# Altium integrated library Capacitors - Ceramic - 0402.IntLib: 4569 symbols (part 11 of 100)
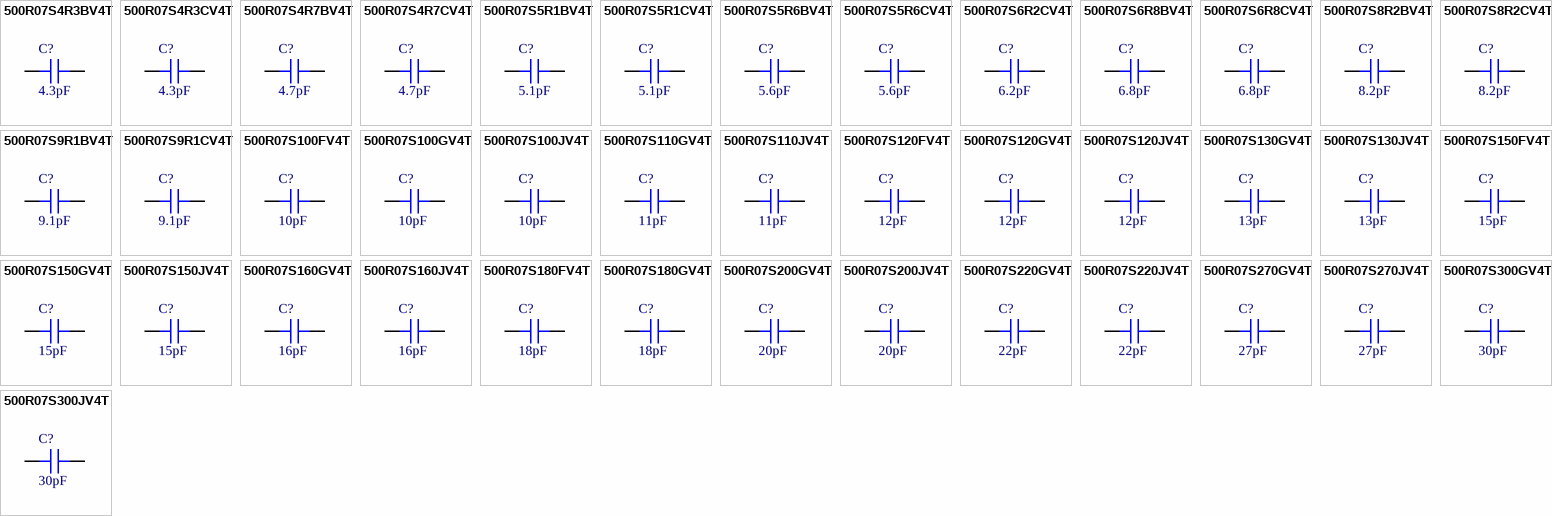
[diagram p124: symbols 500R07S4R3BV4T to 500R07S300JV4T]

## 500R07S110JV4T
designator C?, comment 11pF
CAP CER 11PF 50V C0G/NP0 0402; Part Number: 500R07S110JV4T; Manufacturer: Johanson Technology Inc.; Temperature Coefficient: C0G, NP0; Tolerance: ±5%; Value: 11pF; Applications: RF, Microwave, High Frequency; Capacitance: 11pF; ComponentLink1Description: Datasheet; ComponentLink1URL: https://www.johansontechnology.com/downloads/catalog/johanson-technology-multi-layer-high-q-capacitors.pdf; ComponentLink2Description: DigiKey Link; ComponentLink2URL: http://digikey.com/product-detail/en/johanson-technology-inc/500R07S110JV4T/712-1255-1-ND/1786717; Device Package: 0402 (1005 Metric); Features: High Q, Low Loss, Ultra Low ESR; LastUpdated: 9/2/2020 1:02:20 AM; Lifecycle Status: Active; Minimum Order: 1; Mounting Type: Surface Mount, MLCC; Operating Temperature: -55°C ~ 125°C; Package / Case: 0402 (1005 Metric); Packaging: TapeAndReel; PartId: 3645; Part Status: Active; Price: 0.03; Series: S; Size / Dimension: 0.040" L x 0.020" W (1.02mm x 0.51mm); Supplier 1: DigiKey; Supplier Part Number 1: 712-1255-1-ND; Thickness (Max): 0.024" (0.61mm); Voltage - Rated: 50V
footprint CAP 0402_1005
pins: 1, 2

## 500R07S120FV4T
designator C?, comment 12pF
CAP CER 12PF 50V NP0 0402; Part Number: 500R07S120FV4T; Manufacturer: Johanson Technology Inc.; Temperature Coefficient: C0G, NP0; Tolerance: ±1%; Value: 12pF; Applications: RF, Microwave, High Frequency; Capacitance: 12pF; ComponentLink1Description: Datasheet; ComponentLink1URL: https://www.johansontechnology.com/downloads/catalog/johanson-technology-multi-layer-high-q-capacitors.pdf; ComponentLink2Description: DigiKey Link; ComponentLink2URL: http://digikey.com/product-detail/en/johanson-technology-inc/500R07S120FV4T/712-1606-1-ND/6612942; Device Package: 0402 (1005 Metric); Features: High Q, Low Loss, Ultra Low ESR; LastUpdated: 9/2/2020 1:02:07 AM; Lifecycle Status: Active; Minimum Order: 1; Mounting Type: Surface Mount, MLCC; Operating Temperature: -55°C ~ 125°C; Package / Case: 0402 (1005 Metric); Packaging: TapeAndReel; PartId: 9730; Part Status: Active; Price: 0.14; Series: S; Size / Dimension: 0.040" L x 0.020" W (1.02mm x 0.51mm); Supplier 1: DigiKey; Supplier Part Number 1: 712-1606-1-ND; Thickness (Max): 0.024" (0.61mm); Voltage - Rated: 50V
footprint CAP 0402_1005
pins: 1, 2

## 500R07S120GV4T
designator C?, comment 12pF
CAP CER 12PF 50V C0G/NP0 0402; Part Number: 500R07S120GV4T; Manufacturer: Johanson Technology Inc.; Temperature Coefficient: C0G, NP0; Tolerance: ±2%; Value: 12pF; Applications: RF, Microwave, High Frequency; Capacitance: 12pF; ComponentLink1Description: Datasheet; ComponentLink1URL: https://www.johansontechnology.com/downloads/catalog/johanson-technology-multi-layer-high-q-capacitors.pdf; ComponentLink2Description: DigiKey Link; ComponentLink2URL: http://digikey.com/product-detail/en/johanson-technology-inc/500R07S120GV4T/712-1256-1-ND/1786718; Device Package: 0402 (1005 Metric); Features: High Q, Low Loss, Ultra Low ESR; LastUpdated: 9/2/2020 1:02:23 AM; Lifecycle Status: Active; Minimum Order: 1; Mounting Type: Surface Mount, MLCC; Operating Temperature: -55°C ~ 125°C; Package / Case: 0402 (1005 Metric); Packaging: TapeAndReel; PartId: 2158; Part Status: Active; Price: 0.07; Series: S; Size / Dimension: 0.040" L x 0.020" W (1.02mm x 0.51mm); Supplier 1: DigiKey; Supplier Part Number 1: 712-1256-1-ND; Thickness (Max): 0.024" (0.61mm); Voltage - Rated: 50V
footprint CAP 0402_1005
pins: 1, 2

## 500R07S120JV4T
designator C?, comment 12pF
CAP CER 12PF 50V C0G/NP0 0402; Part Number: 500R07S120JV4T; Manufacturer: Johanson Technology Inc.; Temperature Coefficient: C0G, NP0; Tolerance: ±5%; Value: 12pF; Applications: RF, Microwave, High Frequency; Capacitance: 12pF; ComponentLink1Description: Datasheet; ComponentLink1URL: https://www.johansontechnology.com/downloads/catalog/johanson-technology-multi-layer-high-q-capacitors.pdf; ComponentLink2Description: DigiKey Link; ComponentLink2URL: http://digikey.com/product-detail/en/johanson-technology-inc/500R07S120JV4T/712-1257-1-ND/1786719; Device Package: 0402 (1005 Metric); Features: High Q, Low Loss, Ultra Low ESR; LastUpdated: 9/2/2020 1:02:09 AM; Lifecycle Status: Active; Minimum Order: 1; Mounting Type: Surface Mount, MLCC; Operating Temperature: -55°C ~ 125°C; Package / Case: 0402 (1005 Metric); Packaging: TapeAndReel; PartId: 8739; Part Status: Active; Price: 0.04; Series: S; Size / Dimension: 0.040" L x 0.020" W (1.02mm x 0.51mm); Supplier 1: DigiKey; Supplier Part Number 1: 712-1257-1-ND; Thickness (Max): 0.024" (0.61mm); Voltage - Rated: 50V
footprint CAP 0402_1005
pins: 1, 2

## 500R07S130GV4T
designator C?, comment 13pF
CAP CER 13PF 50V C0G/NP0 0402; Part Number: 500R07S130GV4T; Manufacturer: Johanson Technology Inc.; Temperature Coefficient: C0G, NP0; Tolerance: ±2%; Value: 13pF; Applications: RF, Microwave, High Frequency; Capacitance: 13pF; ComponentLink1Description: Datasheet; ComponentLink1URL: https://www.johansontechnology.com/downloads/catalog/johanson-technology-multi-layer-high-q-capacitors.pdf; ComponentLink2Description: DigiKey Link; ComponentLink2URL: http://digikey.com/product-detail/en/johanson-technology-inc/500R07S130GV4T/712-1258-1-ND/1786720; Device Package: 0402 (1005 Metric); Features: High Q, Low Loss, Ultra Low ESR; LastUpdated: 9/2/2020 1:01:49 AM; Lifecycle Status: Active; Minimum Order: 1; Mounting Type: Surface Mount, MLCC; Operating Temperature: -55°C ~ 125°C; Package / Case: 0402 (1005 Metric); Packaging: TapeAndReel; PartId: 12243; Part Status: Active; Price: 0.07; Series: S; Size / Dimension: 0.040" L x 0.020" W (1.02mm x 0.51mm); Supplier 1: DigiKey; Supplier Part Number 1: 712-1258-1-ND; Thickness (Max): 0.024" (0.61mm); Voltage - Rated: 50V
footprint CAP 0402_1005
pins: 1, 2

## 500R07S130JV4T
designator C?, comment 13pF
CAP CER 13PF 50V C0G/NP0 0402; Part Number: 500R07S130JV4T; Manufacturer: Johanson Technology Inc.; Temperature Coefficient: C0G, NP0; Tolerance: ±5%; Value: 13pF; Applications: RF, Microwave, High Frequency; Capacitance: 13pF; ComponentLink1Description: Datasheet; ComponentLink1URL: https://www.johansontechnology.com/downloads/catalog/johanson-technology-multi-layer-high-q-capacitors.pdf; ComponentLink2Description: DigiKey Link; ComponentLink2URL: http://digikey.com/product-detail/en/johanson-technology-inc/500R07S130JV4T/712-1259-1-ND/1786721; Device Package: 0402 (1005 Metric); Features: High Q, Low Loss, Ultra Low ESR; LastUpdated: 9/2/2020 1:02:08 AM; Lifecycle Status: Active; Minimum Order: 1; Mounting Type: Surface Mount, MLCC; Operating Temperature: -55°C ~ 125°C; Package / Case: 0402 (1005 Metric); Packaging: TapeAndReel; PartId: 9273; Part Status: Active; Price: 0.04; Series: S; Size / Dimension: 0.040" L x 0.020" W (1.02mm x 0.51mm); Supplier 1: DigiKey; Supplier Part Number 1: 712-1259-1-ND; Thickness (Max): 0.024" (0.61mm); Voltage - Rated: 50V
footprint CAP 0402_1005
pins: 1, 2

## 500R07S150FV4T
designator C?, comment 15pF
CAP CER 15PF 50V C0G/NP0 0402; Part Number: 500R07S150FV4T; Manufacturer: Johanson Technology Inc.; Temperature Coefficient: C0G, NP0; Tolerance: ±1%; Value: 15pF; Applications: RF, Microwave, High Frequency; Capacitance: 15pF; ComponentLink1Description: Datasheet; ComponentLink1URL: https://www.johansontechnology.com/downloads/catalog/johanson-technology-multi-layer-high-q-capacitors.pdf; ComponentLink2Description: DigiKey Link; ComponentLink2URL: http://digikey.com/product-detail/en/johanson-technology-inc/500R07S150FV4T/712-1583-1-ND/5253623; Device Package: 0402 (1005 Metric); Features: High Q, Low Loss, Ultra Low ESR; LastUpdated: 9/2/2020 1:02:07 AM; Lifecycle Status: Active; Minimum Order: 1; Mounting Type: Surface Mount, MLCC; Operating Temperature: -55°C ~ 125°C; Package / Case: 0402 (1005 Metric); Packaging: TapeAndReel; PartId: 9710; Part Status: Active; Price: 0.12; Series: S; Size / Dimension: 0.040" L x 0.020" W (1.02mm x 0.51mm); Supplier 1: DigiKey; Supplier Part Number 1: 712-1583-1-ND; Thickness (Max): 0.024" (0.61mm); Voltage - Rated: 50V
footprint CAP 0402_1005
pins: 1, 2

## 500R07S150GV4T
designator C?, comment 15pF
CAP CER 15PF 50V C0G/NP0 0402; Part Number: 500R07S150GV4T; Manufacturer: Johanson Technology Inc.; Temperature Coefficient: C0G, NP0; Tolerance: ±2%; Value: 15pF; Applications: RF, Microwave, High Frequency; Capacitance: 15pF; ComponentLink1Description: Datasheet; ComponentLink1URL: https://www.johansontechnology.com/downloads/catalog/johanson-technology-multi-layer-high-q-capacitors.pdf; ComponentLink2Description: DigiKey Link; ComponentLink2URL: http://digikey.com/product-detail/en/johanson-technology-inc/500R07S150GV4T/712-1260-1-ND/1786722; Device Package: 0402 (1005 Metric); Features: High Q, Low Loss, Ultra Low ESR; LastUpdated: 9/2/2020 1:02:23 AM; Lifecycle Status: Active; Minimum Order: 1; Mounting Type: Surface Mount, MLCC; Operating Temperature: -55°C ~ 125°C; Package / Case: 0402 (1005 Metric); Packaging: TapeAndReel; PartId: 2161; Part Status: Active; Price: 0.07; Series: S; Size / Dimension: 0.040" L x 0.020" W (1.02mm x 0.51mm); Supplier 1: DigiKey; Supplier Part Number 1: 712-1260-1-ND; Thickness (Max): 0.024" (0.61mm); Voltage - Rated: 50V
footprint CAP 0402_1005
pins: 1, 2

## 500R07S150JV4T
designator C?, comment 15pF
CAP CER 15PF 50V C0G/NP0 0402; Part Number: 500R07S150JV4T; Manufacturer: Johanson Technology Inc.; Temperature Coefficient: C0G, NP0; Tolerance: ±5%; Value: 15pF; Applications: RF, Microwave, High Frequency; Capacitance: 15pF; ComponentLink1Description: Datasheet; ComponentLink1URL: https://www.johansontechnology.com/downloads/catalog/johanson-technology-multi-layer-high-q-capacitors.pdf; ComponentLink2Description: DigiKey Link; ComponentLink2URL: http://digikey.com/product-detail/en/johanson-technology-inc/500R07S150JV4T/712-1261-1-ND/1786723; Device Package: 0402 (1005 Metric); Features: High Q, Low Loss, Ultra Low ESR; LastUpdated: 9/2/2020 1:02:17 AM; Lifecycle Status: Active; Minimum Order: 1; Mounting Type: Surface Mount, MLCC; Operating Temperature: -55°C ~ 125°C; Package / Case: 0402 (1005 Metric); Packaging: TapeAndReel; PartId: 5069; Part Status: Active; Price: 0.04; Series: S; Size / Dimension: 0.040" L x 0.020" W (1.02mm x 0.51mm); Supplier 1: DigiKey; Supplier Part Number 1: 712-1261-1-ND; Thickness (Max): 0.024" (0.61mm); Voltage - Rated: 50V
footprint CAP 0402_1005
pins: 1, 2

## 500R07S160GV4T
designator C?, comment 16pF
CAP CER 16PF 50V C0G/NP0 0402; Part Number: 500R07S160GV4T; Manufacturer: Johanson Technology Inc.; Temperature Coefficient: C0G, NP0; Tolerance: ±2%; Value: 16pF; Applications: RF, Microwave, High Frequency; Capacitance: 16pF; ComponentLink1Description: Datasheet; ComponentLink1URL: https://www.johansontechnology.com/downloads/catalog/johanson-technology-multi-layer-high-q-capacitors.pdf; ComponentLink2Description: DigiKey Link; ComponentLink2URL: http://digikey.com/product-detail/en/johanson-technology-inc/500R07S160GV4T/712-1262-1-ND/1786724; Device Package: 0402 (1005 Metric); Features: High Q, Low Loss, Ultra Low ESR; LastUpdated: 9/2/2020 1:01:48 AM; Lifecycle Status: Active; Minimum Order: 1; Mounting Type: Surface Mount, MLCC; Operating Temperature: -55°C ~ 125°C; Package / Case: 0402 (1005 Metric); Packaging: TapeAndReel; PartId: 12270; Part Status: Active; Price: 0.07; Series: S; Size / Dimension: 0.040" L x 0.020" W (1.02mm x 0.51mm); Supplier 1: DigiKey; Supplier Part Number 1: 712-1262-1-ND; Thickness (Max): 0.024" (0.61mm); Voltage - Rated: 50V
footprint CAP 0402_1005
pins: 1, 2

## 500R07S160JV4T
designator C?, comment 16pF
CAP CER 16PF 50V C0G/NP0 0402; Part Number: 500R07S160JV4T; Manufacturer: Johanson Technology Inc.; Temperature Coefficient: C0G, NP0; Tolerance: ±5%; Value: 16pF; Applications: RF, Microwave, High Frequency; Capacitance: 16pF; ComponentLink1Description: Datasheet; ComponentLink1URL: https://www.johansontechnology.com/downloads/catalog/johanson-technology-multi-layer-high-q-capacitors.pdf; ComponentLink2Description: DigiKey Link; ComponentLink2URL: http://digikey.com/product-detail/en/johanson-technology-inc/500R07S160JV4T/712-1263-1-ND/1786725; Device Package: 0402 (1005 Metric); Features: High Q, Low Loss, Ultra Low ESR; LastUpdated: 9/2/2020 1:02:20 AM; Lifecycle Status: Active; Minimum Order: 1; Mounting Type: Surface Mount, MLCC; Operating Temperature: -55°C ~ 125°C; Package / Case: 0402 (1005 Metric); Packaging: TapeAndReel; PartId: 3652; Part Status: Active; Price: 0.03; Series: S; Size / Dimension: 0.040" L x 0.020" W (1.02mm x 0.51mm); Supplier 1: DigiKey; Supplier Part Number 1: 712-1263-1-ND; Thickness (Max): 0.024" (0.61mm); Voltage - Rated: 50V
footprint CAP 0402_1005
pins: 1, 2

## 500R07S180FV4T
designator C?, comment 18pF
CAP CER 18PF 50V NP0 0402; Part Number: 500R07S180FV4T; Manufacturer: Johanson Technology Inc.; Temperature Coefficient: C0G, NP0; Tolerance: ±1%; Value: 18pF; Applications: RF, Microwave, High Frequency; Capacitance: 18pF; ComponentLink1Description: Datasheet; ComponentLink1URL: https://www.johansontechnology.com/downloads/catalog/johanson-technology-multi-layer-high-q-capacitors.pdf; ComponentLink2Description: DigiKey Link; ComponentLink2URL: http://digikey.com/product-detail/en/johanson-technology-inc/500R07S180FV4T/712-1607-1-ND/6612943; Device Package: 0402 (1005 Metric); Features: High Q, Low Loss, Ultra Low ESR; LastUpdated: 9/2/2020 1:02:13 AM; Lifecycle Status: Active; Minimum Order: 1; Mounting Type: Surface Mount, MLCC; Operating Temperature: -55°C ~ 125°C; Package / Case: 0402 (1005 Metric); Packaging: TapeAndReel; PartId: 6659; Part Status: Active; Price: 0.12; Series: S; Size / Dimension: 0.040" L x 0.020" W (1.02mm x 0.51mm); Supplier 1: DigiKey; Supplier Part Number 1: 712-1607-1-ND; Thickness (Max): 0.024" (0.61mm); Voltage - Rated: 50V
footprint CAP 0402_1005
pins: 1, 2

## 500R07S180GV4T
designator C?, comment 18pF
CAP CER 18PF 50V C0G/NP0 0402; Part Number: 500R07S180GV4T; Manufacturer: Johanson Technology Inc.; Temperature Coefficient: C0G, NP0; Tolerance: ±2%; Value: 18pF; Applications: RF, Microwave, High Frequency; Capacitance: 18pF; ComponentLink1Description: Datasheet; ComponentLink1URL: https://www.johansontechnology.com/downloads/catalog/johanson-technology-multi-layer-high-q-capacitors.pdf; ComponentLink2Description: DigiKey Link; ComponentLink2URL: http://digikey.com/product-detail/en/johanson-technology-inc/500R07S180GV4T/712-1264-1-ND/1786726; Device Package: 0402 (1005 Metric); Features: High Q, Low Loss, Ultra Low ESR; LastUpdated: 9/2/2020 1:01:48 AM; Lifecycle Status: Active; Minimum Order: 1; Mounting Type: Surface Mount, MLCC; Operating Temperature: -55°C ~ 125°C; Package / Case: 0402 (1005 Metric); Packaging: TapeAndReel; PartId: 12291; Part Status: Active; Price: 0.07; Series: S; Size / Dimension: 0.040" L x 0.020" W (1.02mm x 0.51mm); Supplier 1: DigiKey; Supplier Part Number 1: 712-1264-1-ND; Thickness (Max): 0.024" (0.61mm); Voltage - Rated: 50V
footprint CAP 0402_1005
pins: 1, 2

## 500R07S200GV4T
designator C?, comment 20pF
CAP CER 20PF 50V C0G/NP0 0402; Part Number: 500R07S200GV4T; Manufacturer: Johanson Technology Inc.; Temperature Coefficient: C0G, NP0; Tolerance: ±2%; Value: 20pF; Applications: RF, Microwave, High Frequency; Capacitance: 20pF; ComponentLink1Description: Datasheet; ComponentLink1URL: https://www.johansontechnology.com/downloads/catalog/johanson-technology-multi-layer-high-q-capacitors.pdf; ComponentLink2Description: DigiKey Link; ComponentLink2URL: http://digikey.com/product-detail/en/johanson-technology-inc/500R07S200GV4T/712-1272-1-ND/1786734; Device Package: 0402 (1005 Metric); Features: High Q, Low Loss, Ultra Low ESR; LastUpdated: 9/2/2020 1:01:18 AM; Lifecycle Status: Active; Minimum Order: 1; Mounting Type: Surface Mount, MLCC; Operating Temperature: -55°C ~ 125°C; Package / Case: 0402 (1005 Metric); Packaging: TapeAndReel; PartId: 13287; Part Status: Active; Price: 0.07; Series: S; Size / Dimension: 0.040" L x 0.020" W (1.02mm x 0.51mm); Supplier 1: DigiKey; Supplier Part Number 1: 712-1272-1-ND; Thickness (Max): 0.024" (0.61mm); Voltage - Rated: 50V
footprint CAP 0402_1005
pins: 1, 2

## 500R07S200JV4T
designator C?, comment 20pF
CAP CER 20PF 50V C0G/NP0 0402; Part Number: 500R07S200JV4T; Manufacturer: Johanson Technology Inc.; Temperature Coefficient: C0G, NP0; Tolerance: ±5%; Value: 20pF; Applications: RF, Microwave, High Frequency; Capacitance: 20pF; ComponentLink1Description: Datasheet; ComponentLink1URL: https://www.johansontechnology.com/downloads/catalog/johanson-technology-multi-layer-high-q-capacitors.pdf; ComponentLink2Description: DigiKey Link; ComponentLink2URL: http://digikey.com/product-detail/en/johanson-technology-inc/500R07S200JV4T/712-1273-1-ND/1786735; Device Package: 0402 (1005 Metric); Features: High Q, Low Loss, Ultra Low ESR; LastUpdated: 9/2/2020 1:02:17 AM; Lifecycle Status: Active; Minimum Order: 1; Mounting Type: Surface Mount, MLCC; Operating Temperature: -55°C ~ 125°C; Package / Case: 0402 (1005 Metric); Packaging: TapeAndReel; PartId: 5043; Part Status: Active; Price: 0.03; Series: S; Size / Dimension: 0.040" L x 0.020" W (1.02mm x 0.51mm); Supplier 1: DigiKey; Supplier Part Number 1: 712-1273-1-ND; Thickness (Max): 0.024" (0.61mm); Voltage - Rated: 50V
footprint CAP 0402_1005
pins: 1, 2

## 500R07S220GV4T
designator C?, comment 22pF
CAP CER 22PF 50V C0G/NP0 0402; Part Number: 500R07S220GV4T; Manufacturer: Johanson Technology Inc.; Temperature Coefficient: C0G, NP0; Tolerance: ±2%; Value: 22pF; Applications: RF, Microwave, High Frequency; Capacitance: 22pF; ComponentLink1Description: Datasheet; ComponentLink1URL: https://www.johansontechnology.com/downloads/catalog/johanson-technology-multi-layer-high-q-capacitors.pdf; ComponentLink2Description: DigiKey Link; ComponentLink2URL: http://digikey.com/product-detail/en/johanson-technology-inc/500R07S220GV4T/712-1274-1-ND/1786736; Device Package: 0402 (1005 Metric); Features: High Q, Low Loss, Ultra Low ESR; LastUpdated: 9/2/2020 1:02:23 AM; Lifecycle Status: Active; Minimum Order: 1; Mounting Type: Surface Mount, MLCC; Operating Temperature: -55°C ~ 125°C; Package / Case: 0402 (1005 Metric); Packaging: TapeAndReel; PartId: 2165; Part Status: Active; Price: 0.07; Series: S; Size / Dimension: 0.040" L x 0.020" W (1.02mm x 0.51mm); Supplier 1: DigiKey; Supplier Part Number 1: 712-1274-1-ND; Thickness (Max): 0.024" (0.61mm); Voltage - Rated: 50V
footprint CAP 0402_1005
pins: 1, 2

## 500R07S220JV4T
designator C?, comment 22pF
CAP CER 22PF 50V C0G/NP0 0402; Part Number: 500R07S220JV4T; Manufacturer: Johanson Technology Inc.; Temperature Coefficient: C0G, NP0; Tolerance: ±5%; Value: 22pF; Applications: RF, Microwave, High Frequency; Capacitance: 22pF; ComponentLink1Description: Datasheet; ComponentLink1URL: https://www.johansontechnology.com/downloads/catalog/johanson-technology-multi-layer-high-q-capacitors.pdf; ComponentLink2Description: DigiKey Link; ComponentLink2URL: http://digikey.com/product-detail/en/johanson-technology-inc/500R07S220JV4T/712-1275-1-ND/1786737; Device Package: 0402 (1005 Metric); Features: High Q, Low Loss, Ultra Low ESR; LastUpdated: 9/2/2020 1:02:09 AM; Lifecycle Status: Active; Minimum Order: 1; Mounting Type: Surface Mount, MLCC; Operating Temperature: -55°C ~ 125°C; Package / Case: 0402 (1005 Metric); Packaging: TapeAndReel; PartId: 8737; Part Status: Active; Price: 0.04; Series: S; Size / Dimension: 0.040" L x 0.020" W (1.02mm x 0.51mm); Supplier 1: DigiKey; Supplier Part Number 1: 712-1275-1-ND; Thickness (Max): 0.024" (0.61mm); Voltage - Rated: 50V
footprint CAP 0402_1005
pins: 1, 2

## 500R07S270GV4T
designator C?, comment 27pF
CAP CER 27PF 50V C0G/NP0 0402; Part Number: 500R07S270GV4T; Manufacturer: Johanson Technology Inc.; Temperature Coefficient: C0G, NP0; Tolerance: ±2%; Value: 27pF; Applications: RF, Microwave, High Frequency; Capacitance: 27pF; ComponentLink1Description: Datasheet; ComponentLink1URL: https://www.johansontechnology.com/downloads/catalog/johanson-technology-multi-layer-high-q-capacitors.pdf; ComponentLink2Description: DigiKey Link; ComponentLink2URL: http://digikey.com/product-detail/en/johanson-technology-inc/500R07S270GV4T/712-1276-1-ND/1786738; Device Package: 0402 (1005 Metric); Features: High Q, Low Loss, Ultra Low ESR; LastUpdated: 9/2/2020 1:02:23 AM; Lifecycle Status: Active; Minimum Order: 1; Mounting Type: Surface Mount, MLCC; Operating Temperature: -55°C ~ 125°C; Package / Case: 0402 (1005 Metric); Packaging: TapeAndReel; PartId: 2172; Part Status: Active; Price: 0.07; Series: S; Size / Dimension: 0.040" L x 0.020" W (1.02mm x 0.51mm); Supplier 1: DigiKey; Supplier Part Number 1: 712-1276-1-ND; Thickness (Max): 0.024" (0.61mm); Voltage - Rated: 50V
footprint CAP 0402_1005
pins: 1, 2

## 500R07S270JV4T
designator C?, comment 27pF
CAP CER 27PF 50V C0G/NP0 0402; Part Number: 500R07S270JV4T; Manufacturer: Johanson Technology Inc.; Temperature Coefficient: C0G, NP0; Tolerance: ±5%; Value: 27pF; Applications: RF, Microwave, High Frequency; Capacitance: 27pF; ComponentLink1Description: Datasheet; ComponentLink1URL: https://www.johansontechnology.com/downloads/catalog/johanson-technology-multi-layer-high-q-capacitors.pdf; ComponentLink2Description: DigiKey Link; ComponentLink2URL: http://digikey.com/product-detail/en/johanson-technology-inc/500R07S270JV4T/712-1277-1-ND/1786739; Device Package: 0402 (1005 Metric); Features: High Q, Low Loss, Ultra Low ESR; LastUpdated: 9/2/2020 1:02:17 AM; Lifecycle Status: Active; Minimum Order: 1; Mounting Type: Surface Mount, MLCC; Operating Temperature: -55°C ~ 125°C; Package / Case: 0402 (1005 Metric); Packaging: TapeAndReel; PartId: 5077; Part Status: Active; Price: 0.04; Series: S; Size / Dimension: 0.040" L x 0.020" W (1.02mm x 0.51mm); Supplier 1: DigiKey; Supplier Part Number 1: 712-1277-1-ND; Thickness (Max): 0.024" (0.61mm); Voltage - Rated: 50V
footprint CAP 0402_1005
pins: 1, 2

## 500R07S300GV4T
designator C?, comment 30pF
CAP CER 30PF 50V C0G/NP0 0402; Part Number: 500R07S300GV4T; Manufacturer: Johanson Technology Inc.; Temperature Coefficient: C0G, NP0; Tolerance: ±2%; Value: 30pF; Applications: RF, Microwave, High Frequency; Capacitance: 30pF; ComponentLink1Description: Datasheet; ComponentLink1URL: https://www.johansontechnology.com/downloads/catalog/johanson-technology-multi-layer-high-q-capacitors.pdf; ComponentLink2Description: DigiKey Link; ComponentLink2URL: http://digikey.com/product-detail/en/johanson-technology-inc/500R07S300GV4T/712-1295-1-ND/1786757; Device Package: 0402 (1005 Metric); Features: High Q, Low Loss, Ultra Low ESR; LastUpdated: 9/2/2020 1:02:18 AM; Lifecycle Status: Active; Minimum Order: 1; Mounting Type: Surface Mount, MLCC; Operating Temperature: -55°C ~ 125°C; Package / Case: 0402 (1005 Metric); Packaging: TapeAndReel; PartId: 4500; Part Status: Active; Price: 0.06; Series: S; Size / Dimension: 0.040" L x 0.020" W (1.02mm x 0.51mm); Supplier 1: DigiKey; Supplier Part Number 1: 712-1295-1-ND; Thickness (Max): 0.024" (0.61mm); Voltage - Rated: 50V
footprint CAP 0402_1005
pins: 1, 2

## 500R07S300JV4T
designator C?, comment 30pF
CAP CER 30PF 50V C0G/NP0 0402; Part Number: 500R07S300JV4T; Manufacturer: Johanson Technology Inc.; Temperature Coefficient: C0G, NP0; Tolerance: ±5%; Value: 30pF; Applications: RF, Microwave, High Frequency; Capacitance: 30pF; ComponentLink1Description: Datasheet; ComponentLink1URL: https://www.johansontechnology.com/downloads/catalog/johanson-technology-multi-layer-high-q-capacitors.pdf; ComponentLink2Description: DigiKey Link; ComponentLink2URL: http://digikey.com/product-detail/en/johanson-technology-inc/500R07S300JV4T/712-1296-1-ND/1786758; Device Package: 0402 (1005 Metric); Features: High Q, Low Loss, Ultra Low ESR; LastUpdated: 9/2/2020 1:02:17 AM; Lifecycle Status: Active; Minimum Order: 1; Mounting Type: Surface Mount, MLCC; Operating Temperature: -55°C ~ 125°C; Package / Case: 0402 (1005 Metric); Packaging: TapeAndReel; PartId: 5085; Part Status: Active; Price: 0.04; Series: S; Size / Dimension: 0.040" L x 0.020" W (1.02mm x 0.51mm); Supplier 1: DigiKey; Supplier Part Number 1: 712-1296-1-ND; Thickness (Max): 0.024" (0.61mm); Voltage - Rated: 50V
footprint CAP 0402_1005
pins: 1, 2

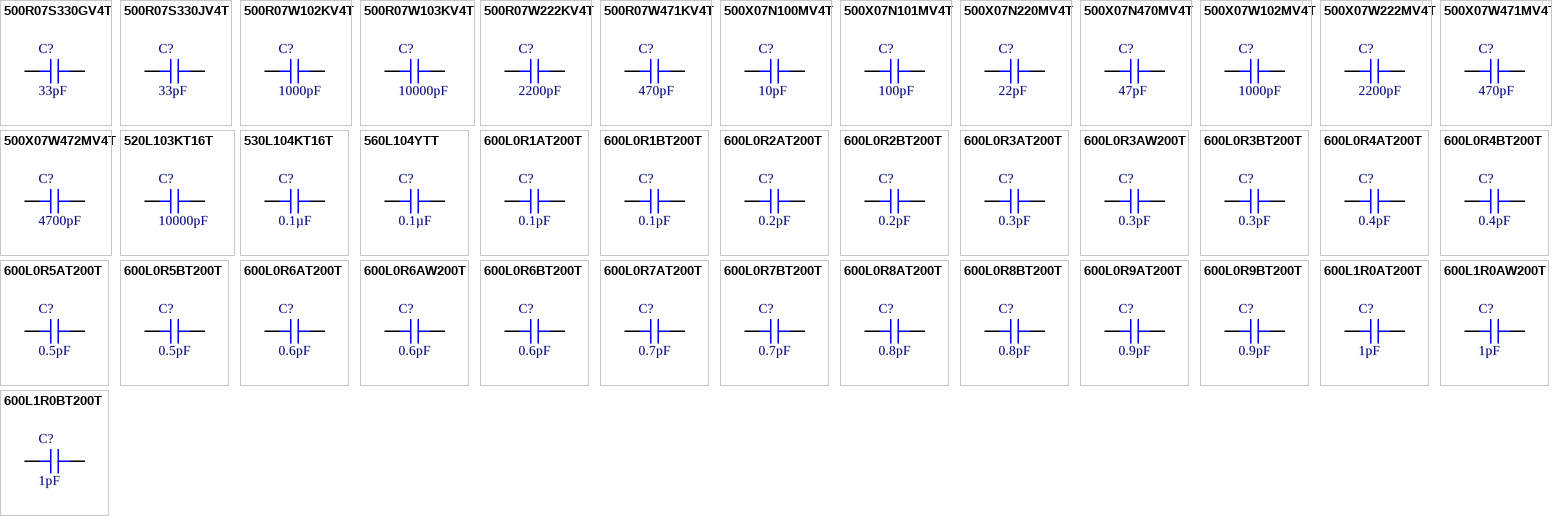
[diagram p12: symbols 500R07S330GV4T to 600L1R0BT200T]

## 500R07S330GV4T
designator C?, comment 33pF
CAP CER 33PF 50V C0G/NP0 0402; Part Number: 500R07S330GV4T; Manufacturer: Johanson Technology Inc.; Temperature Coefficient: C0G, NP0; Tolerance: ±2%; Value: 33pF; Applications: RF, Microwave, High Frequency; Capacitance: 33pF; ComponentLink1Description: Datasheet; ComponentLink1URL: https://www.johansontechnology.com/downloads/catalog/johanson-technology-multi-layer-high-q-capacitors.pdf; ComponentLink2Description: DigiKey Link; ComponentLink2URL: http://digikey.com/product-detail/en/johanson-technology-inc/500R07S330GV4T/712-1297-1-ND/1786759; Device Package: 0402 (1005 Metric); Features: High Q, Low Loss, Ultra Low ESR; LastUpdated: 9/2/2020 1:02:14 AM; Lifecycle Status: Active; Minimum Order: 1; Mounting Type: Surface Mount, MLCC; Operating Temperature: -55°C ~ 125°C; Package / Case: 0402 (1005 Metric); Packaging: TapeAndReel; PartId: 6334; Part Status: Active; Price: 0.07; Series: S; Size / Dimension: 0.040" L x 0.020" W (1.02mm x 0.51mm); Supplier 1: DigiKey; Supplier Part Number 1: 712-1297-1-ND; Thickness (Max): 0.024" (0.61mm); Voltage - Rated: 50V
footprint CAP 0402_1005
pins: 1, 2

## 500R07S330JV4T
designator C?, comment 33pF
CAP CER 33PF 50V C0G/NP0 0402; Part Number: 500R07S330JV4T; Manufacturer: Johanson Technology Inc.; Temperature Coefficient: C0G, NP0; Tolerance: ±5%; Value: 33pF; Applications: RF, Microwave, High Frequency; Capacitance: 33pF; ComponentLink1Description: Datasheet; ComponentLink1URL: https://www.johansontechnology.com/downloads/catalog/johanson-technology-multi-layer-high-q-capacitors.pdf; ComponentLink2Description: DigiKey Link; ComponentLink2URL: http://digikey.com/product-detail/en/johanson-technology-inc/500R07S330JV4T/712-1298-1-ND/1786760; Device Package: 0402 (1005 Metric); Features: High Q, Low Loss, Ultra Low ESR; LastUpdated: 9/2/2020 1:02:08 AM; Lifecycle Status: Active; Minimum Order: 1; Mounting Type: Surface Mount, MLCC; Operating Temperature: -55°C ~ 125°C; Package / Case: 0402 (1005 Metric); Packaging: TapeAndReel; PartId: 9262; Part Status: Active; Price: 0.04; Series: S; Size / Dimension: 0.040" L x 0.020" W (1.02mm x 0.51mm); Supplier 1: DigiKey; Supplier Part Number 1: 712-1298-1-ND; Thickness (Max): 0.024" (0.61mm); Voltage - Rated: 50V
footprint CAP 0402_1005
pins: 1, 2

## 500R07W102KV4T
designator C?, comment 1000pF
CAP CER 1000PF 50V X7R 0402; Part Number: 500R07W102KV4T; Manufacturer: Johanson Dielectrics Inc.; Tolerance: ±10%; Value: 1000pF; Applications: General Purpose; Capacitance: 1000pF; ComponentLink1Description: Datasheet; ComponentLink1URL: https://www.johansondielectrics.com/downloads/catalog/johanson-dielectrics-product-catalog.pdf; ComponentLink2Description: DigiKey Link; ComponentLink2URL: http://digikey.com/product-detail/en/johanson-dielectrics-inc/500R07W102KV4T/709-1133-1-ND/1859465; Device Package: 0402 (1005 Metric); LastUpdated: 9/2/2020 1:02:17 AM; Lifecycle Status: Active; Minimum Order: 1; Mounting Type: Surface Mount, MLCC; Operating Temperature: -55°C ~ 125°C; Package / Case: 0402 (1005 Metric); Packaging: TapeAndReel; PartId: 4886; Part Status: Active; Price: 0.04; Series: -; Size / Dimension: 0.040" L x 0.020" W (1.02mm x 0.51mm); Supplier 1: DigiKey; Supplier Part Number 1: 709-1133-1-ND; Temperature Coefficient: X7R; Thickness (Max): 0.025" (0.64mm); Voltage - Rated: 50V
footprint CAP 0402_1005
pins: 1, 2

## 500R07W103KV4T
designator C?, comment 10000pF
CAP CER 10000PF 50V X7R 0402; Part Number: 500R07W103KV4T; Manufacturer: Johanson Dielectrics Inc.; Tolerance: ±10%; Value: 10000pF; Applications: General Purpose; Capacitance: 10000pF; ComponentLink1Description: Datasheet; ComponentLink1URL: https://www.johansondielectrics.com/downloads/catalog/johanson-dielectrics-product-catalog.pdf; ComponentLink2Description: DigiKey Link; ComponentLink2URL: http://digikey.com/product-detail/en/johanson-dielectrics-inc/500R07W103KV4T/709-1134-1-ND/1859466; Device Package: 0402 (1005 Metric); LastUpdated: 9/2/2020 1:02:09 AM; Lifecycle Status: Active; Minimum Order: 1; Mounting Type: Surface Mount, MLCC; Operating Temperature: -55°C ~ 125°C; Package / Case: 0402 (1005 Metric); Packaging: TapeAndReel; PartId: 8759; Part Status: Active; Price: 0.04; Series: -; Size / Dimension: 0.040" L x 0.020" W (1.02mm x 0.51mm); Supplier 1: DigiKey; Supplier Part Number 1: 709-1134-1-ND; Temperature Coefficient: X7R; Thickness (Max): 0.025" (0.64mm); Voltage - Rated: 50V
footprint CAP 0402_1005
pins: 1, 2

## 500R07W222KV4T
designator C?, comment 2200pF
CAP CER 2200PF 50V X7R 0402; Part Number: 500R07W222KV4T; Manufacturer: Johanson Dielectrics Inc.; Tolerance: ±10%; Value: 2200pF; Applications: General Purpose; Capacitance: 2200pF; ComponentLink1Description: Datasheet; ComponentLink1URL: https://www.johansondielectrics.com/downloads/catalog/johanson-dielectrics-product-catalog.pdf; ComponentLink2Description: DigiKey Link; ComponentLink2URL: http://digikey.com/product-detail/en/johanson-dielectrics-inc/500R07W222KV4T/709-1135-1-ND/1859467; Device Package: 0402 (1005 Metric); LastUpdated: 9/2/2020 1:02:09 AM; Lifecycle Status: Active; Minimum Order: 1; Mounting Type: Surface Mount, MLCC; Operating Temperature: -55°C ~ 125°C; Package / Case: 0402 (1005 Metric); Packaging: TapeAndReel; PartId: 8868; Part Status: Active; Price: 0.01; Series: -; Size / Dimension: 0.040" L x 0.020" W (1.02mm x 0.51mm); Supplier 1: DigiKey; Supplier Part Number 1: 709-1135-1-ND; Temperature Coefficient: X7R; Thickness (Max): 0.025" (0.64mm); Voltage - Rated: 50V
footprint CAP 0402_1005
pins: 1, 2

## 500R07W471KV4T
designator C?, comment 470pF
CAP CER 470PF 50V X7R 0402; Part Number: 500R07W471KV4T; Manufacturer: Johanson Dielectrics Inc.; Tolerance: ±10%; Value: 470pF; Applications: General Purpose; Capacitance: 470pF; ComponentLink1Description: Datasheet; ComponentLink1URL: https://www.johansondielectrics.com/downloads/catalog/johanson-dielectrics-product-catalog.pdf; ComponentLink2Description: DigiKey Link; ComponentLink2URL: http://digikey.com/product-detail/en/johanson-dielectrics-inc/500R07W471KV4T/709-1137-1-ND/1859469; Device Package: 0402 (1005 Metric); LastUpdated: 9/2/2020 1:02:09 AM; Lifecycle Status: Active; Minimum Order: 1; Mounting Type: Surface Mount, MLCC; Operating Temperature: -55°C ~ 125°C; Package / Case: 0402 (1005 Metric); Packaging: TapeAndReel; PartId: 8871; Part Status: Active; Price: 0.01; Series: -; Size / Dimension: 0.040" L x 0.020" W (1.02mm x 0.51mm); Supplier 1: DigiKey; Supplier Part Number 1: 709-1137-1-ND; Temperature Coefficient: X7R; Thickness (Max): 0.025" (0.64mm); Voltage - Rated: 50V
footprint CAP 0402_1005
pins: 1, 2

## 500X07N100MV4T
designator C?, comment 10pF
CAP CER 10PF 50V C0G/NP0 0402; Part Number: 500X07N100MV4T; Manufacturer: Johanson Dielectrics Inc.; Temperature Coefficient: C0G, NP0; Tolerance: ±20%; Value: 10pF; Applications: Bypass, Decoupling; Capacitance: 10pF; ComponentLink1Description: Datasheet; ComponentLink1URL: https://www.johansondielectrics.com/downloads/x2y-filter-and-decoupling-capacitors.pdf; ComponentLink2Description: DigiKey Link; ComponentLink2URL: http://digikey.com/product-detail/en/johanson-dielectrics-inc/500X07N100MV4T/709-1211-1-ND/2046937; Device Package: 0402 (1005 Metric); Features: Low ESL (X2Y); LastUpdated: 9/2/2020 1:02:08 AM; Lifecycle Status: Active; Minimum Order: 1; Mounting Type: Surface Mount, MLCC; Operating Temperature: -55°C ~ 125°C; Package / Case: 0402 (1005 Metric); Packaging: TapeAndReel; PartId: 8932; Part Status: Active; Price: 0.09; Series: X2Y®; Size / Dimension: 0.045" L x 0.025" W (1.14mm x 0.64mm); Supplier 1: DigiKey; Supplier Part Number 1: 709-1211-1-ND; Thickness (Max): 0.020" (0.51mm); Voltage - Rated: 50V
footprint CAP 0402_1005
pins: 1, 2

## 500X07N101MV4T
designator C?, comment 100pF
CAP CER 100PF 50V C0G/NP0 0402; Part Number: 500X07N101MV4T; Manufacturer: Johanson Dielectrics Inc.; Temperature Coefficient: C0G, NP0; Tolerance: ±20%; Value: 100pF; Applications: Bypass, Decoupling; Capacitance: 100pF; ComponentLink1Description: Datasheet; ComponentLink1URL: https://www.johansondielectrics.com/downloads/x2y-filter-and-decoupling-capacitors.pdf; ComponentLink2Description: DigiKey Link; ComponentLink2URL: http://digikey.com/product-detail/en/johanson-dielectrics-inc/500X07N101MV4T/709-1214-1-ND/2046940; Device Package: 0402 (1005 Metric); Features: Low ESL (X2Y); LastUpdated: 9/2/2020 1:02:25 AM; Lifecycle Status: Active; Minimum Order: 1; Mounting Type: Surface Mount, MLCC; Operating Temperature: -55°C ~ 125°C; Package / Case: 0402 (1005 Metric); Packaging: TapeAndReel; PartId: 1767; Part Status: Active; Price: 0.12; Series: X2Y®; Size / Dimension: 0.045" L x 0.025" W (1.14mm x 0.64mm); Supplier 1: DigiKey; Supplier Part Number 1: 709-1214-1-ND; Thickness (Max): 0.020" (0.51mm); Voltage - Rated: 50V
footprint CAP 0402_1005
pins: 1, 2

## 500X07N220MV4T
designator C?, comment 22pF
CAP CER 22PF 50V C0G/NP0 0402; Part Number: 500X07N220MV4T; Manufacturer: Johanson Dielectrics Inc.; Temperature Coefficient: C0G, NP0; Tolerance: ±20%; Value: 22pF; Applications: Bypass, Decoupling; Capacitance: 22pF; ComponentLink1Description: Datasheet; ComponentLink1URL: https://www.johansondielectrics.com/downloads/x2y-filter-and-decoupling-capacitors.pdf; ComponentLink2Description: DigiKey Link; ComponentLink2URL: http://digikey.com/product-detail/en/johanson-dielectrics-inc/500X07N220MV4T/709-1212-1-ND/2046938; Device Package: 0402 (1005 Metric); Features: Low ESL (X2Y); LastUpdated: 9/2/2020 1:02:11 AM; Lifecycle Status: Active; Minimum Order: 1; Mounting Type: Surface Mount, MLCC; Operating Temperature: -55°C ~ 125°C; Package / Case: 0402 (1005 Metric); Packaging: TapeAndReel; PartId: 7778; Part Status: Active; Price: 0.10; Series: X2Y®; Size / Dimension: 0.045" L x 0.025" W (1.14mm x 0.64mm); Supplier 1: DigiKey; Supplier Part Number 1: 709-1212-1-ND; Thickness (Max): 0.020" (0.51mm); Voltage - Rated: 50V
footprint CAP 0402_1005
pins: 1, 2

## 500X07N470MV4T
designator C?, comment 47pF
CAP CER 47PF 50V C0G/NP0 0402; Part Number: 500X07N470MV4T; Manufacturer: Johanson Dielectrics Inc.; Temperature Coefficient: C0G, NP0; Tolerance: ±20%; Value: 47pF; Applications: Bypass, Decoupling; Capacitance: 47pF; ComponentLink1Description: Datasheet; ComponentLink1URL: https://www.johansondielectrics.com/downloads/x2y-filter-and-decoupling-capacitors.pdf; ComponentLink2Description: DigiKey Link; ComponentLink2URL: http://digikey.com/product-detail/en/johanson-dielectrics-inc/500X07N470MV4T/709-1213-1-ND/2046939; Device Package: 0402 (1005 Metric); Features: Low ESL (X2Y); LastUpdated: 9/2/2020 1:02:20 AM; Lifecycle Status: Active; Minimum Order: 1; Mounting Type: Surface Mount, MLCC; Operating Temperature: -55°C ~ 125°C; Package / Case: 0402 (1005 Metric); Packaging: TapeAndReel; PartId: 3841; Part Status: Active; Price: 0.11; Series: X2Y®; Size / Dimension: 0.045" L x 0.025" W (1.14mm x 0.64mm); Supplier 1: DigiKey; Supplier Part Number 1: 709-1213-1-ND; Thickness (Max): 0.020" (0.51mm); Voltage - Rated: 50V
footprint CAP 0402_1005
pins: 1, 2

## 500X07W102MV4T
designator C?, comment 1000pF
CAP CER 1000PF 50V X7R 0402; Part Number: 500X07W102MV4T; Manufacturer: Johanson Dielectrics Inc.; Tolerance: ±20%; Value: 1000pF; Applications: Bypass, Decoupling; Capacitance: 1000pF; ComponentLink1Description: Datasheet; ComponentLink1URL: https://www.johansondielectrics.com/downloads/x2y-filter-and-decoupling-capacitors.pdf; ComponentLink2Description: DigiKey Link; ComponentLink2URL: http://digikey.com/product-detail/en/johanson-dielectrics-inc/500X07W102MV4T/709-1216-1-ND/2046942; Device Package: 0402 (1005 Metric); Features: Low ESL (X2Y); LastUpdated: 9/2/2020 1:02:08 AM; Lifecycle Status: Active; Minimum Order: 1; Mounting Type: Surface Mount, MLCC; Operating Temperature: -55°C ~ 125°C; Package / Case: 0402 (1005 Metric); Packaging: TapeAndReel; PartId: 8921; Part Status: Active; Price: 0.09; Series: X2Y®; Size / Dimension: 0.045" L x 0.025" W (1.14mm x 0.64mm); Supplier 1: DigiKey; Supplier Part Number 1: 709-1216-1-ND; Temperature Coefficient: X7R; Thickness (Max): 0.020" (0.51mm); Voltage - Rated: 50V
footprint CAP 0402_1005
pins: 1, 2

## 500X07W222MV4T
designator C?, comment 2200pF
CAP CER 2200PF 50V X7R 0402; Part Number: 500X07W222MV4T; Manufacturer: Johanson Dielectrics Inc.; Tolerance: ±20%; Value: 2200pF; Applications: Bypass, Decoupling; Capacitance: 2200pF; ComponentLink1Description: Datasheet; ComponentLink1URL: https://www.johansondielectrics.com/downloads/x2y-filter-and-decoupling-capacitors.pdf; ComponentLink2Description: DigiKey Link; ComponentLink2URL: http://digikey.com/product-detail/en/johanson-dielectrics-inc/500X07W222MV4T/709-1218-1-ND/2046944; Device Package: 0402 (1005 Metric); Features: Low ESL (X2Y); LastUpdated: 9/2/2020 1:02:08 AM; Lifecycle Status: Active; Minimum Order: 1; Mounting Type: Surface Mount, MLCC; Operating Temperature: -55°C ~ 125°C; Package / Case: 0402 (1005 Metric); Packaging: TapeAndReel; PartId: 9333; Part Status: Active; Price: 0.09; Series: X2Y®; Size / Dimension: 0.045" L x 0.025" W (1.14mm x 0.64mm); Supplier 1: DigiKey; Supplier Part Number 1: 709-1218-1-ND; Temperature Coefficient: X7R; Thickness (Max): 0.020" (0.51mm); Voltage - Rated: 50V
footprint CAP 0402_1005
pins: 1, 2

## 500X07W471MV4T
designator C?, comment 470pF
CAP CER 470PF 50V X7R 0402; Part Number: 500X07W471MV4T; Manufacturer: Johanson Dielectrics Inc.; Tolerance: ±20%; Value: 470pF; Applications: Bypass, Decoupling; Capacitance: 470pF; ComponentLink1Description: Datasheet; ComponentLink1URL: https://www.johansondielectrics.com/downloads/x2y-filter-and-decoupling-capacitors.pdf; ComponentLink2Description: DigiKey Link; ComponentLink2URL: http://digikey.com/product-detail/en/johanson-dielectrics-inc/500X07W471MV4T/709-1215-1-ND/2046941; Device Package: 0402 (1005 Metric); Features: Low ESL (X2Y); LastUpdated: 9/2/2020 1:02:08 AM; Lifecycle Status: Active; Minimum Order: 1; Mounting Type: Surface Mount, MLCC; Operating Temperature: -55°C ~ 125°C; Package / Case: 0402 (1005 Metric); Packaging: TapeAndReel; PartId: 8923; Part Status: Active; Price: 0.09; Series: X2Y®; Size / Dimension: 0.045" L x 0.025" W (1.14mm x 0.64mm); Supplier 1: DigiKey; Supplier Part Number 1: 709-1215-1-ND; Temperature Coefficient: X7R; Thickness (Max): 0.020" (0.51mm); Voltage - Rated: 50V
footprint CAP 0402_1005
pins: 1, 2

## 500X07W472MV4T
designator C?, comment 4700pF
CAP CER 4700PF 50V X7R 0402; Part Number: 500X07W472MV4T; Manufacturer: Johanson Dielectrics Inc.; Tolerance: ±20%; Value: 4700pF; Applications: Bypass, Decoupling; Capacitance: 4700pF; ComponentLink1Description: Datasheet; ComponentLink1URL: https://www.johansondielectrics.com/downloads/x2y-filter-and-decoupling-capacitors.pdf; ComponentLink2Description: DigiKey Link; ComponentLink2URL: http://digikey.com/product-detail/en/johanson-dielectrics-inc/500X07W472MV4T/709-1219-1-ND/2046945; Device Package: 0402 (1005 Metric); Features: Low ESL (X2Y); LastUpdated: 9/2/2020 1:02:11 AM; Lifecycle Status: Active; Minimum Order: 1; Mounting Type: Surface Mount, MLCC; Operating Temperature: -55°C ~ 125°C; Package / Case: 0402 (1005 Metric); Packaging: TapeAndReel; PartId: 7775; Part Status: Active; Price: 0.10; Series: X2Y®; Size / Dimension: 0.045" L x 0.025" W (1.14mm x 0.64mm); Supplier 1: DigiKey; Supplier Part Number 1: 709-1219-1-ND; Temperature Coefficient: X7R; Thickness (Max): 0.020" (0.51mm); Voltage - Rated: 50V
footprint CAP 0402_1005
pins: 1, 2

## 520L103KT16T
designator C?, comment 10000pF
CAP CER 10000PF 16V X7R 0402; Part Number: 520L103KT16T; Manufacturer: American Technical Ceramics; Tolerance: ±10%; Value: 10000pF; Applications: Bypass, Decoupling; Capacitance: 10000pF; ComponentLink1Description: Datasheet; ComponentLink1URL: https://www.atceramics.com/UserFiles/520l.pdf; ComponentLink2Description: DigiKey Link; ComponentLink2URL: http://digikey.com/product-detail/en/american-technical-ceramics/520L103KT16T/1284-1540-1-ND/5768007; Device Package: 0402 (1005 Metric); Features: High Q, Low Loss; LastUpdated: 9/2/2020 1:01:30 AM; Lifecycle Status: Active; Minimum Order: 1; Mounting Type: Surface Mount, MLCC; Operating Temperature: -55°C ~ 125°C; Package / Case: 0402 (1005 Metric); Packaging: TapeAndReel; PartId: 12885; Part Status: Active; Price: 0.84; Series: ATC 520L; Size / Dimension: 0.039" L x 0.020" W (1.00mm x 0.50mm); Supplier 1: DigiKey; Supplier Part Number 1: 1284-1540-1-ND; Temperature Coefficient: X7R; Thickness (Max): 0.024" (0.60mm); Voltage - Rated: 16V
footprint CAP 0402_1005
pins: 1, 2

## 530L104KT16T
designator C?, comment 0.1µF
CAP CER 0.1UF 16V X7R 0402; Part Number: 530L104KT16T; Manufacturer: American Technical Ceramics; Tolerance: ±10%; Value: 0.1µF; Applications: SMPS Filtering; Capacitance: 0.1µF; ComponentLink1Description: Datasheet; ComponentLink1URL: https://www.atceramics.com/UserFiles/530l.pdf; ComponentLink2Description: DigiKey Link; ComponentLink2URL: http://digikey.com/product-detail/en/american-technical-ceramics/530L104KT16T/1284-1591-1-ND/6570912; Device Package: 0402 (1005 Metric); LastUpdated: 9/2/2020 1:02:19 AM; Lifecycle Status: Active; Minimum Order: 1; Mounting Type: Surface Mount, MLCC; Operating Temperature: -55°C ~ 125°C; Package / Case: 0402 (1005 Metric); Packaging: TapeAndReel; PartId: 4234; Part Status: Active; Price: 0.95; Series: ATC 530L; Size / Dimension: 0.040" L x 0.020" W (1.02mm x 0.51mm); Supplier 1: DigiKey; Supplier Part Number 1: 1284-1591-1-ND; Temperature Coefficient: X7R; Thickness (Max): 0.024" (0.61mm); Voltage - Rated: 16V
footprint CAP 0402_1005
pins: 1, 2

## 560L104YTT
designator C?, comment 0.1µF
CAP CER 0.1UF 16V 0402; Part Number: 560L104YTT; Manufacturer: American Technical Ceramics; Tolerance: -20%, +25%; Value: 0.1µF; Applications: RF, Microwave, High Frequency, Bypass, Decoupling; Capacitance: 0.1µF; ComponentLink1Description: Datasheet; ComponentLink1URL: https://atceramics.com/UserFiles/560L.pdf; ComponentLink2Description: DigiKey Link; ComponentLink2URL: http://digikey.com/product-detail/en/american-technical-ceramics/560L104YTT/1284-1880-1-ND/8323738; Device Package: 0402 (1005 Metric); LastUpdated: 9/2/2020 1:01:30 AM; Lifecycle Status: Active; Minimum Order: 1; Mounting Type: Surface Mount, MLCC; Operating Temperature: -55°C ~ 125°C; Package / Case: 0402 (1005 Metric); Packaging: TapeAndReel; PartId: 12899; Part Status: Active; Price: 2.02; Series: UBC™ ATC 560L; Size / Dimension: 0.040" L x 0.020" W (1.02mm x 0.51mm); Supplier 1: DigiKey; Supplier Part Number 1: 1284-1880-1-ND; Thickness (Max): 0.024" (0.61mm); Voltage - Rated: 16V
footprint CAP 0402_1005
pins: 1, 2

## 600L0R1AT200T
designator C?, comment 0.1pF
CAP CER 0.1PF 200V C0G/NP0 0402; Part Number: 600L0R1AT200T; Manufacturer: American Technical Ceramics; Temperature Coefficient: C0G, NP0; Tolerance: ±0.05pF; Value: 0.1pF; Applications: RF, Microwave, High Frequency, Bypass, Decoupling; Capacitance: 0.1pF; ComponentLink1Description: Datasheet; ComponentLink1URL: http://www.atceramics.com/UserFiles/600l.pdf; ComponentLink2Description: DigiKey Link; ComponentLink2URL: http://digikey.com/product-detail/en/american-technical-ceramics/600L0R1AT200T/1284-1083-1-ND/3905449; Device Package: 0402 (1005 Metric); Features: High Q, Low Loss, Ultra Low ESR; LastUpdated: 9/2/2020 1:02:13 AM; Lifecycle Status: Active; Minimum Order: 1; Mounting Type: Surface Mount, MLCC; Operating Temperature: -55°C ~ 125°C; Package / Case: 0402 (1005 Metric); Packaging: TapeAndReel; PartId: 6946; Part Status: Active; Price: 0.36; Series: ATC 600L; Size / Dimension: 0.040" L x 0.020" W (1.02mm x 0.51mm); Supplier 1: DigiKey; Supplier Part Number 1: 1284-1083-1-ND; Thickness (Max): 0.024" (0.60mm); Voltage - Rated: 200V
footprint CAP 0402_1005
pins: 1, 2

## 600L0R1BT200T
designator C?, comment 0.1pF
CAP CER 0.1PF 200V NP0 0402; Part Number: 600L0R1BT200T; Manufacturer: American Technical Ceramics; Temperature Coefficient: C0G, NP0; Value: 0.1pF; Applications: RF, Microwave, High Frequency, Bypass, Decoupling; Capacitance: 0.1pF; ComponentLink1Description: Datasheet; ComponentLink1URL: http://www.atceramics.com/UserFiles/600l.pdf; ComponentLink2Description: DigiKey Link; ComponentLink2URL: http://digikey.com/product-detail/en/american-technical-ceramics/600L0R1BT200T/1284-1904-6-ND/9450799; Device Package: 0402 (1005 Metric); Features: High Q, Low Loss, Ultra Low ESR; LastUpdated: 9/2/2020 1:02:22 AM; Lifecycle Status: Active; Minimum Order: 1; Mounting Type: Surface Mount, MLCC; Operating Temperature: -55°C ~ 125°C; Package / Case: 0402 (1005 Metric); Packaging: TapeAndReel; PartId: 2853; Part Status: Active; Price: 0.42; Series: ATC 600L; Size / Dimension: 0.040" L x 0.020" W (1.02mm x 0.51mm); Supplier 1: DigiKey; Supplier Part Number 1: 1284-1904-6-ND; Thickness (Max): 0.024" (0.60mm); Tolerance: ±0.1pF; Voltage - Rated: 200V
footprint CAP 0402_1005
pins: 1, 2

## 600L0R2AT200T
designator C?, comment 0.2pF
CAP CER 0.2PF 200V C0G/NP0 0402; Part Number: 600L0R2AT200T; Manufacturer: American Technical Ceramics; Temperature Coefficient: C0G, NP0; Tolerance: ±0.05pF; Value: 0.2pF; Applications: RF, Microwave, High Frequency, Bypass, Decoupling; Capacitance: 0.2pF; ComponentLink1Description: Datasheet; ComponentLink1URL: http://www.atceramics.com/UserFiles/600l.pdf; ComponentLink2Description: DigiKey Link; ComponentLink2URL: http://digikey.com/product-detail/en/american-technical-ceramics/600L0R2AT200T/1284-1084-1-ND/3905450; Device Package: 0402 (1005 Metric); Features: High Q, Low Loss, Ultra Low ESR; LastUpdated: 9/2/2020 1:02:17 AM; Lifecycle Status: Active; Minimum Order: 1; Mounting Type: Surface Mount, MLCC; Operating Temperature: -55°C ~ 125°C; Package / Case: 0402 (1005 Metric); Packaging: TapeAndReel; PartId: 5018; Part Status: Active; Price: 0.36; Series: ATC 600L; Size / Dimension: 0.040" L x 0.020" W (1.02mm x 0.51mm); Supplier 1: DigiKey; Supplier Part Number 1: 1284-1084-1-ND; Thickness (Max): 0.024" (0.60mm); Voltage - Rated: 200V
footprint CAP 0402_1005
pins: 1, 2

## 600L0R2BT200T
designator C?, comment 0.2pF
CAP CER 0.2PF 200V NP0 0402; Part Number: 600L0R2BT200T; Manufacturer: American Technical Ceramics; Temperature Coefficient: C0G, NP0; Tolerance: ±0.1pF; Value: 0.2pF; Applications: RF, Microwave, High Frequency, Bypass, Decoupling; Capacitance: 0.2pF; ComponentLink1Description: Datasheet; ComponentLink1URL: http://www.atceramics.com/UserFiles/600l.pdf; ComponentLink2Description: DigiKey Link; ComponentLink2URL: http://digikey.com/product-detail/en/american-technical-ceramics/600L0R2BT200T/1284-1905-1-ND/9450710; Device Package: 0402 (1005 Metric); Features: High Q, Low Loss, Ultra Low ESR; LastUpdated: 9/2/2020 1:02:08 AM; Lifecycle Status: Active; Minimum Order: 1; Mounting Type: Surface Mount, MLCC; Operating Temperature: -55°C ~ 125°C; Package / Case: 0402 (1005 Metric); Packaging: TapeAndReel; PartId: 9177; Part Status: Active; Price: 0.42; Series: ATC 600L; Size / Dimension: 0.040" L x 0.020" W (1.02mm x 0.51mm); Supplier 1: DigiKey; Supplier Part Number 1: 1284-1905-1-ND; Thickness (Max): 0.024" (0.60mm); Voltage - Rated: 200V
footprint CAP 0402_1005
pins: 1, 2

## 600L0R3AT200T
designator C?, comment 0.3pF
CAP CER 0.3PF 200V C0G/NP0 0402; Part Number: 600L0R3AT200T; Manufacturer: American Technical Ceramics; Temperature Coefficient: C0G, NP0; Tolerance: ±0.05pF; Value: 0.3pF; Applications: RF, Microwave, High Frequency, Bypass, Decoupling; Capacitance: 0.3pF; ComponentLink1Description: Datasheet; ComponentLink1URL: http://www.atceramics.com/UserFiles/600l.pdf; ComponentLink2Description: DigiKey Link; ComponentLink2URL: http://digikey.com/product-detail/en/american-technical-ceramics/600L0R3AT200T/1284-1085-1-ND/3905319; Device Package: 0402 (1005 Metric); Features: High Q, Low Loss, Ultra Low ESR; LastUpdated: 9/2/2020 1:02:17 AM; Lifecycle Status: Active; Minimum Order: 1; Mounting Type: Surface Mount, MLCC; Operating Temperature: -55°C ~ 125°C; Package / Case: 0402 (1005 Metric); Packaging: TapeAndReel; PartId: 5011; Part Status: Active; Price: 0.32; Series: ATC 600L; Size / Dimension: 0.040" L x 0.020" W (1.02mm x 0.51mm); Supplier 1: DigiKey; Supplier Part Number 1: 1284-1085-1-ND; Thickness (Max): 0.024" (0.60mm); Voltage - Rated: 200V
footprint CAP 0402_1005
pins: 1, 2

## 600L0R3AW200T
designator C?, comment 0.3pF
CAP CER 0.3PF 200V NP0 0402; Part Number: 600L0R3AW200T; Manufacturer: American Technical Ceramics; Temperature Coefficient: C0G, NP0; Tolerance: ±0.05pF; Value: 0.3pF; Applications: RF, Microwave, High Frequency, Bypass, Decoupling; Capacitance: 0.3pF; ComponentLink1Description: Datasheet; ComponentLink1URL: http://www.atceramics.com/UserFiles/600l.pdf; ComponentLink2Description: DigiKey Link; ComponentLink2URL: http://digikey.com/product-detail/en/american-technical-ceramics/600L0R3AW200T/478-12296-1-ND/9602733; Device Package: 0402 (1005 Metric); Features: High Q, Low Loss, Ultra Low ESR; LastUpdated: 9/2/2020 1:02:08 AM; Lifecycle Status: Active; Minimum Order: 1; Mounting Type: Surface Mount, MLCC; Operating Temperature: -55°C ~ 125°C; Package / Case: 0402 (1005 Metric); Packaging: TapeAndReel; PartId: 9170; Part Status: Active; Price: 0.36; Series: ATC 600L; Size / Dimension: 0.040" L x 0.020" W (1.02mm x 0.51mm); Supplier 1: DigiKey; Supplier Part Number 1: 478-12296-1-ND; Thickness (Max): 0.024" (0.60mm); Voltage - Rated: 200V
footprint CAP 0402_1005
pins: 1, 2